# EAGLE library part NODEMCU (library pcaroli)
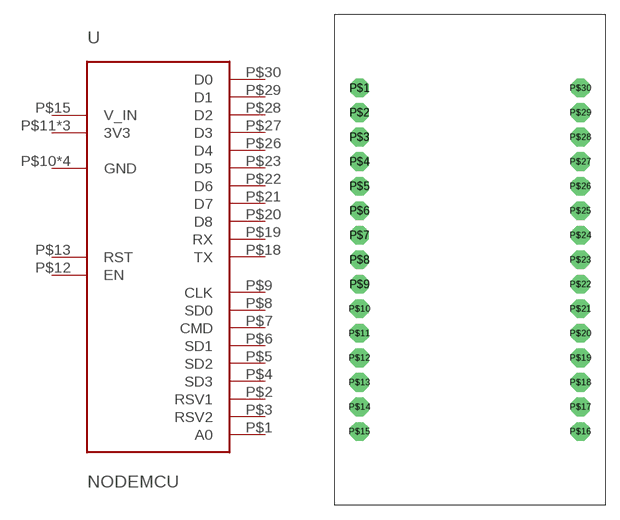
[diagram p7: symbol with the pads of NODEMCU; footprint NODEMCU]

Designator prefix -

## NODEMCU  [NODEMCU]
P$1  A0
P$2  RSV1
P$3  RSV2
P$4  SD3
P$5  SD2
P$6  SD1
P$7  CMD
P$8  SD0
P$9  CLK
P$10  GND
P$11  3V3
P$12  EN
P$13  RST
P$14  GND
P$15  V_IN
P$16  3V3
P$17  GND
P$18  TX
P$19  RX
P$20  D8
P$21  D7
P$22  D6
P$23  D5
P$24  GND
P$25  3V3
P$26  D4
P$27  D3
P$28  D2
P$29  D1
P$30  D0

## Footprint NODEMCU (pad centres in mm)
drill 1 pad 1.93 octagon: P$1 -10.16,17.78; P$2 -10.16,15.24; P$3 -10.16,12.7; P$4 -10.16,10.16; P$5 -10.16,7.62; P$6 -10.16,5.08; P$7 -10.16,2.54; P$8 -10.16,0; P$9 -10.16,-2.54; P$10 -10.16,-5.08; P$11 -10.16,-7.62; P$12 -10.16,-10.16; P$13 -10.16,-12.7; P$14 -10.16,-15.24; P$15 -10.16,-17.78; P$16 12.7,-17.78; P$17 12.7,-15.24; P$18 12.7,-12.7; P$19 12.7,-10.16; P$20 12.7,-7.62; P$21 12.7,-5.08; P$22 12.7,-2.54; P$23 12.7,0; P$24 12.7,2.54; P$25 12.7,5.08; P$26 12.7,7.62; P$27 12.7,10.16; P$28 12.7,12.7; P$29 12.7,15.24; P$30 12.7,17.78